# EAGLE library part N548 (library N548)
Based on Nordic Semiconductor’s nRF51422 SoC, the N5 ANT SoC module series offers support for both ANT® and Bluetooth® low energy and enables both protocols to run concurrently, depending on the loaded protocol stack. The N5 ANT SoC module series starts with N548M8CB in a 14.0mm x 9.8mm x 2.0mm LGA (Land Array Grid) package. A compact design meeting the market requirements for small, light and wearable, the N548M8CB is a turnkey system hardware solution including antenna, onboard 32k and 16M crystal clocks, DC-DC converter and 24 GPIOs with 6 analogue inputs. The N548 modules are pre-programmed with the following software components:  S210 SoftDevice (ANT 8-channel protocol stack)  ANT network processor application  ANT-WP (Wireless Programming) bootloader (depends on module version) SoftDevices are protocol stack solutions from Nordic Semiconductor for the nRF51 SoCs. There are multiple SoftDevice choices available from the Nordic Semiconductor’s web site. The ANT network processor application offers the standard ANT serial interface front-end that is connectable to an external application controller. The ANT-WP bootloader allows over-the-air updates of any software components on the N548 module. The N548 module pre-programmed image can be easily replaced via the onboard SWD interface pins using offthe- shelf ARM programming tools or over the air using the pre-loaded ANT-WP bootloader. Pin compatible options to the 20mm x 20mm AP2 or C7 modules from Dynastream are also available. In these options, N548M8CB modules are soldered on carrier boards that are pin compatible to the previous modules. Current AP2 or C7 module customers can easily use these models to evaluate the hardware and upgrade their products. The N5 module series if loaded with ANT and/or BLUETOOTH Low energy stack has been certified to comply with radio regulation or standards covering major markets include North America, Europe, Australia, New Zealand and Japan. The N5 ANT SoC modules series has also been qualified by the BLUETOOTH SIG.
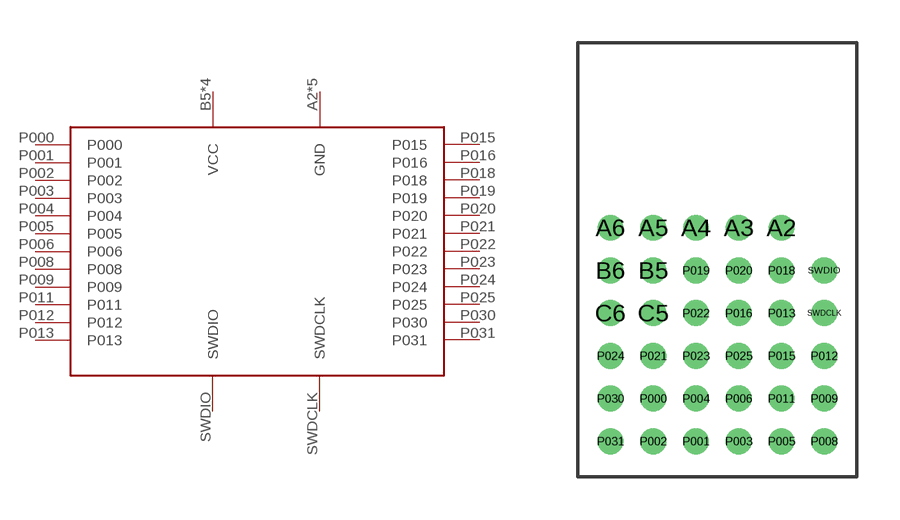
[diagram p0: symbol with the pads of N548; footprint N548]

Designator prefix -

## N548  [N548]
A2  GND
A3  GND
A4  GND
A5  GND
A6  GND
B5  VCC
B6  VCC
C5  VCC
C6  VCC
P000  P000
P001  P001
P002  P002
P003  P003
P004  P004
P005  P005
P006  P006
P008  P008
P009  P009
P011  P011
P012  P012
P013  P013
P015  P015
P016  P016
P018  P018
P019  P019
P020  P020
P021  P021
P022  P022
P023  P023
P024  P024
P025  P025
P030  P030
P031  P031
SWDCLK  SWDCLK
SWDIO  SWDIO

## Footprint N548 (pad centres in mm)
drill 0.4 pad 0.72: A2 6,7.5; A3 4.5,7.5; A4 3,7.5; A5 1.5,7.5; A6 0,7.5; B5 1.5,6; B6 0,6; C5 1.5,4.5; C6 0,4.5; P000 1.5,1.5; P001 3,0; P002 1.5,0; P003 4.5,0; P004 3,1.5; P005 6,0; P006 4.5,1.5; P008 7.5,0; P009 7.5,1.5; P011 6,1.5; P012 7.5,3; P013 6,4.5; P015 6,3; P016 4.5,4.5; P018 6,6; P019 3,6; P020 4.5,6; P021 1.5,3; P022 3,4.5; P023 3,3; P024 0,3; P025 4.5,3; P030 0,1.5; P031 0,0; SWDCLK 7.5,4.5; SWDIO 7.5,6